# Altium footprint library chips.PcbLib: 36 footprints (part 3 of 3)
Each footprint in its own frame and in the unit in brackets; x right, y up, seen from the top. Pads: shape width x height; smd on the part's side, far side on the other; paste and mask are expansions set on the pad; w line width, h text height; cw(c..) or ccw(c..) is an arc to the next point about the centre after c.
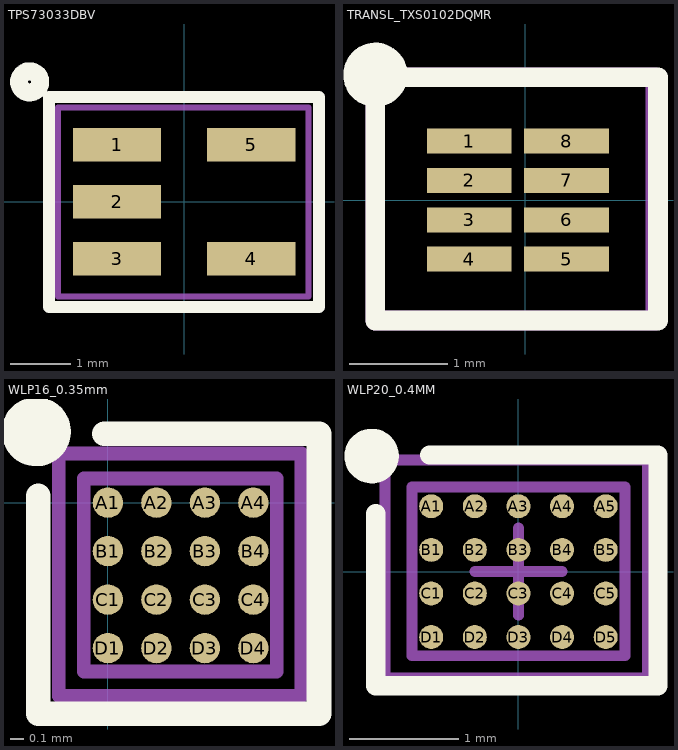
[diagram p2: the footprints below, top view; thin cyan lines are the x and y axes]

## TPS73033DBV [mil]
pads (5):
  rect 58x22 smd: 1(-44,37.4) 2(-44,0) 3(-44,-37.4) 4(44,-37.4) 5(44,37.4)
Top Overlay:
  circle w11.81: c-101.38,78.74 r6.96
  lines w7.87: 88.58,-68.9 -88.58,-68.9 -88.58,68.9 88.58,68.9 88.58,-62.99 88.58,-67.91
Top Assembly:
  lines w3.94: -82.67,-62.01 -82.67,62.01 81.69,62.01 81.69,-62.01 -82.67,-62.01
  text ".Designator" at -56.1,-13.78 h35
3D body "CircuitWorks-SOT-23-5.step": height 41.34, standoff -1.97, extent -53.15,-59.05 45.27,59.06

## TRANSL_TXS0102DQMR [mil] "TRNSLTR Voltage levels BIDIRECTIONAL 8X2SON"
pads (8):
  rect 34x10 smd: 1(-22.45,23.62) 2(-22.45,7.87) 3(-22.45,-7.87) 4(-22.45,-23.62) 5(16.55,-23.62) 6(16.55,-7.87) 7(16.55,7.87) 8(16.55,23.62)
Top Overlay:
  circle w11.81: c-60.04,50.2 r6.96
  lines w7.87: -60.04,-48.23 53.15,-48.23 53.15,49.21 -60.04,49.21 -60.04,-48.23
Top Assembly:
  lines w7.87: -60.04,-48.23 -60.04,49.21 52.17,49.21 52.17,-48.23 -60.04,-48.23
  text ".Designator" at -35.43,-15.75 h35
3D body "DQM0008A.stp": height 19.68, standoff 0, extent -27.56,-35.43 19.69,35.43

## WLP16_0.35mm [mm]
pads (16):
  round 0.22 smd mask+0.05: A1(0,0) A2(0.35,0) A3(0.7,0) A4(1.05,0) B1(0,-0.35) B2(0.35,-0.35) B3(0.7,-0.35) B4(1.05,-0.35) C1(0,-0.7) C2(0.35,-0.7) C3(0.7,-0.7) C4(1.05,-0.7) D1(0,-1.05) D2(0.35,-1.05) D3(0.7,-1.05) D4(1.05,-1.05)
Top Overlay:
  circle w0.25: c-0.517,0.513 r0.125
  lines w0.178: -0.505,0.051 -0.505,-1.524 1.524,-1.524 1.524,0.499 -0.025,0.499
Top 3D Body:
  lines w0.1: -0.175,-1.219 1.219,-1.219 1.219,0.175 -0.175,0.175 -0.175,-1.219
Top Assembly:
  lines w0.1: -0.356,-1.397 -0.356,0.356 1.397,0.356 1.397,-1.397 -0.356,-1.397
3D body: height 0.14, standoff -0.02, extent -0.074,-0.07 0.075,0.071
3D body: height 0.6, standoff 0.1, extent -0.164,-1.23 1.231,0.164
3D body: height 0.63, standoff 0.3, extent 0.103,-0.304 0.356,-0.051

## WLP20_0.4MM [mm]
pads (20):
  round 0.22 smd mask+0.05: A1(-0.8,0.6) A2(-0.4,0.6) A3(0,0.6) A4(0.4,0.6) A5(0.8,0.6) B1(-0.8,0.2) B2(-0.4,0.2) B3(0,0.2) B4(0.4,0.2) B5(0.8,0.2) C1(-0.8,-0.2) C2(-0.4,-0.2) C3(0,-0.2) C4(0.4,-0.2) C5(0.8,-0.2) D1(-0.8,-0.6) D2(-0.4,-0.6) D3(0,-0.6) D4(0.4,-0.6) D5(0.8,-0.6)
Top Overlay:
  circle w0.25: c-1.347,1.061 r0.125
  lines w0.178: -1.308,0.533 -1.308,-1.045 1.28,-1.045 1.28,1.071 -0.813,1.071
Top 3D Body:
  lines w0.1: -0.975,-0.772 -0.975,0.775 0.978,0.775 0.978,-0.772 -0.975,-0.772
Top Assembly:
  lines w0.1: -0.4,0 0.4,0 ; 0,-0.4 0,0.4 ; -1.225,-0.975 -1.225,1.025 1.181,1.025 1.181,-0.975 -1.225,-0.975
3D body: height 0.6, standoff 0.1, extent -0.988,-0.75 0.965,0.797
3D body: height 0.63, standoff 0.3, extent -0.697,0.296 -0.444,0.549
3D body: height 0.14, standoff -0.02, extent 0.726,-0.67 0.875,-0.529
3D body: height 0.14, standoff -0.02, extent 0.726,-0.27 0.875,-0.129
3D body: height 0.14, standoff -0.02, extent 0.726,0.13 0.875,0.271
3D body: height 0.14, standoff -0.02, extent 0.726,0.53 0.875,0.671
3D body: height 0.14, standoff -0.02, extent 0.326,0.53 0.475,0.671
3D body: height 0.14, standoff -0.02, extent -0.074,0.53 0.075,0.671
3D body: height 0.14, standoff -0.02, extent -0.474,0.53 -0.325,0.671
3D body: height 0.14, standoff -0.02, extent -0.874,0.53 -0.725,0.671
3D body: height 0.14, standoff -0.02, extent -0.474,0.13 -0.325,0.271
3D body: height 0.14, standoff -0.02, extent -0.074,0.13 0.075,0.271
3D body: height 0.14, standoff -0.02, extent 0.326,0.13 0.475,0.271
3D body: height 0.14, standoff -0.02, extent 0.326,-0.27 0.475,-0.129
3D body: height 0.14, standoff -0.02, extent -0.074,-0.27 0.075,-0.129
3D body: height 0.14, standoff -0.02, extent -0.474,-0.27 -0.325,-0.129
3D body: height 0.14, standoff -0.02, extent -0.874,-0.27 -0.725,-0.129
3D body: height 0.14, standoff -0.02, extent 0.326,-0.67 0.475,-0.529
3D body: height 0.14, standoff -0.02, extent -0.074,-0.67 0.075,-0.529
3D body: height 0.14, standoff -0.02, extent -0.474,-0.67 -0.325,-0.529
3D body: height 0.14, standoff -0.02, extent -0.874,-0.67 -0.725,-0.529
3D body: height 0.14, standoff -0.02, extent -0.874,0.13 -0.725,0.271